# Altium footprint library SnapEDApcb.PcbLib: 1 footprints
Each footprint in its own frame and in the unit in brackets; x right, y up, seen from the top. Pads: shape width x height; smd on the part's side, far side on the other; paste and mask are expansions set on the pad; w line width, h text height; cw(c..) or ccw(c..) is an arc to the next point about the centre after c.
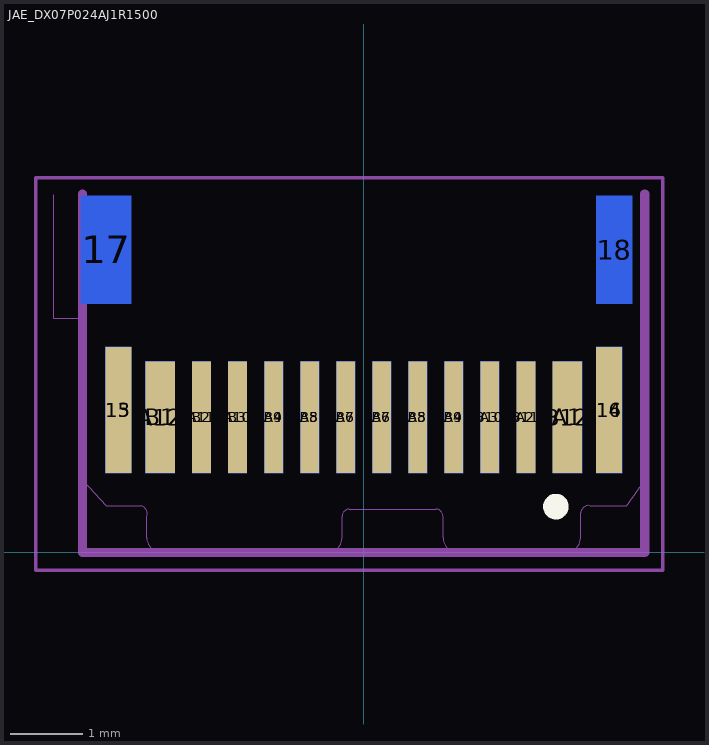
[diagram p0: the footprint, top view; thin cyan lines are the x and y axes]

## JAE_DX07P024AJ1R1500 [mm]
pads (30):
  rect 0.36x1.75 smd: 13(-3.405,1.975) 14(3.405,1.975)
  rect 0.36x1.75 smd far side: 15(-3.405,1.975) 16(3.405,1.975)
  rect 0.7x1.5 smd far side: 17(-3.575,4.2)
  rect 0.5x1.5 smd far side: 18(3.475,4.2)
  rect 0.41x1.55 smd: A1(2.825,1.875) A12(-2.825,1.875)
  rect 0.26x1.55 smd: A2(2.25,1.875) A3(1.75,1.875) A4(1.25,1.875) A5(0.75,1.875) A6(0.25,1.875) A7(-0.25,1.875) A8(-0.75,1.875) A9(-1.25,1.875) A10(-1.75,1.875) A11(-2.25,1.875)
  rect 0.41x1.55 smd far side: B1(-2.825,1.875) B12(2.825,1.875)
  rect 0.26x1.55 smd far side: B2(-2.25,1.875) B3(-1.75,1.875) B4(-1.25,1.875) B5(-0.75,1.875) B6(-0.25,1.875) B7(0.25,1.875) B8(0.75,1.875) B9(1.25,1.875) B10(1.75,1.875) B11(2.25,1.875)
Top Overlay:
  circle w0.254: c2.667,0.635 r0.05
Mechanical 1:
  lines w0: -4.3,4.96 -4.3,3.25 -3.9,3.25 -3.9,1 -3.57,0.65 -3.09,0.65 cw(c-3.125,0.535) -3.01,0.5 -3.01,0.2 ccw(c-2.81,0.2) -2.81,0 -0.5,0 ccw(c-0.5,0.2) -0.3,0.2 -0.3,0.5 cw(c-0.2,0.5) -0.2,0.6 1,0.6 cw(c1,0.5) 1.1,0.5 1.1,0.2 ccw(c1.3,0.2) 1.3,0 2.81,0 ccw(c2.81,0.2) 3.01,0.2 3.01,0.55 ; 3.01,0.549 cw(c3.125,0.535) 3.139,0.65 3.65,0.65 3.9,1 3.9,4.96
Mechanical 13:
  lines w0.127: -3.9,4.975 -3.9,0 3.9,0 3.9,4.975
Mechanical 15:
  lines w0.05: -4.55,-0.25 4.15,-0.25 4.15,5.2 -4.55,5.2 -4.55,-0.25